# Altium schematic symbol library Capacitor Schematics.SchLib: 30 symbols
Pins are listed as number, name and electrical type; pins without a type are passive.

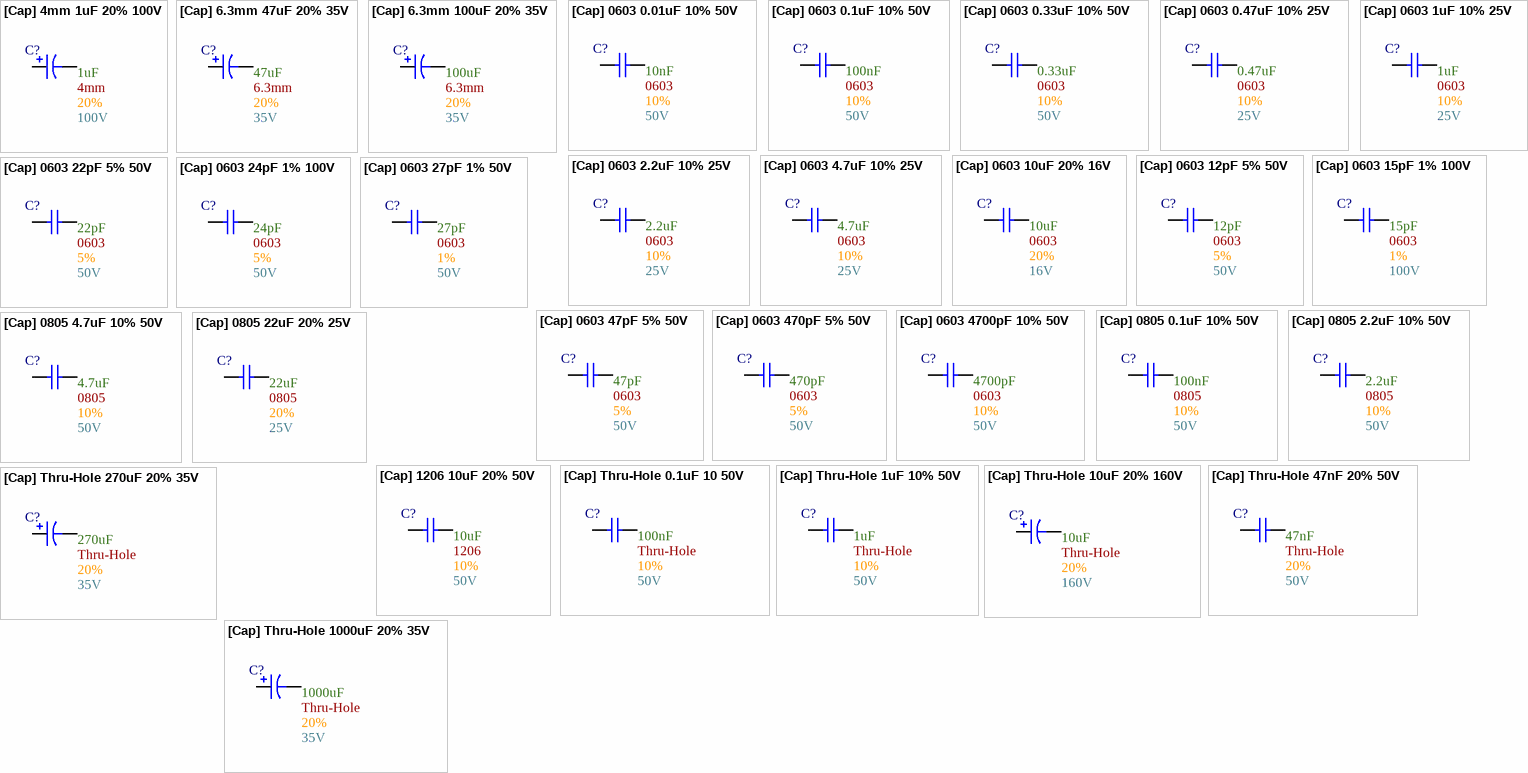
[diagram p0: symbols [Cap] 4mm 1uF 20% 100V to [Cap] Thru-Hole 1000uF 20% 35V]

## [Cap] 4mm 1uF 20% 100V
designator C?  Max Voltage: 100V  Size Package: 4mm  Tolerance: 20%  Capacitance: 1uF  (hidden comment: *)
865080840001; Supplier 1: DigiKey; Supplier Part Number 1: 732-865080840001CT-ND
footprint [Cap] SMD Polarized, 4mm
pins: 1, 2

## [Cap] 6.3mm 47uF 20% 35V
designator C?  Max Voltage: 35V  Size Package: 6.3mm  Tolerance: 20%  Capacitance: 47uF  (hidden comment: *)
UWT1V470MCL1GS; Supplier 1: DigiKey; Supplier Part Number 1: 493-2202-1-ND
footprint [Cap] SMD Polarized, 6.3mm
pins: 1, 2

## [Cap] 6.3mm 100uF 20% 35V
designator C?  Max Voltage: 35V  Size Package: 6.3mm  Tolerance: 20%  Capacitance: 100uF  (hidden comment: *)
EEE-FT1V101AP; Supplier 1: DigiKey; Supplier Part Number 1: PCE5016DKR-ND
footprint [Cap] SMD Polarized, 6.3mm
pins: 1, 2

## [Cap] 0603 0.01uF 10% 50V
designator C?  Max Voltage: 50V  Size Package: 0603  Tolerance: 10%  Capacitance: 10nF  (hidden comment: *)
C0603C103K5RACTU; Supplier 1: DigiKey; Supplier Part Number 1: 399-C0603C103K5RACTUDKR-ND
footprint [Cap] SMD 0603
pins: 1, 2

## [Cap] 0603 0.1uF 10% 50V
designator C?  Max Voltage: 50V  Size Package: 0603  Tolerance: 10%  Capacitance: 100nF  (hidden comment: *)
CL10B104KB8NNNC; Supplier 1: DigiKey; Supplier Part Number 1: 1276-1000-6-ND
footprint [Cap] SMD 0603
pins: 1, 2

## [Cap] 0603 0.33uF 10% 50V
designator C?  Max Voltage: 50V  Size Package: 0603  Tolerance: 10%  Capacitance: 0.33uF  (hidden comment: *)
CGA3E3X7R1H334K080AB; Supplier 1: DigiKey; Supplier Part Number 1: 445-174426-1-ND
footprint [Cap] SMD 0603
pins: 1, 2

## [Cap] 0603 0.47uF 10% 25V
designator C?  Max Voltage: 25V  Size Package: 0603  Tolerance: 10%  Capacitance: 0.47uF  (hidden comment: *)
TMK107B7474KA-TR; Supplier 1: DigiKey; Supplier Part Number 1: 587-2670-1-ND
footprint [Cap] SMD 0603
pins: 1, 2

## [Cap] 0603 1uF 10% 25V
designator C?  Max Voltage: 25V  Size Package: 0603  Tolerance: 10%  Capacitance: 1uF  (hidden comment: *)
CL10B105KA8NNNC; Supplier 1: DigiKey; Supplier Part Number 1: 1276-1184-1-ND
footprint [Cap] SMD 0603
pins: 1, 2

## [Cap] 0603 2.2uF 10% 25V
designator C?  Max Voltage: 25V  Size Package: 0603  Tolerance: 10%  Capacitance: 2.2uF  (hidden comment: *)
GRM188R61E225KA12D; Supplier 1: DigiKey; Supplier Part Number 1: 490-10731-1-ND
footprint [Cap] SMD 0603
pins: 1, 2

## [Cap] 0603 4.7uF 10% 25V
designator C?  Max Voltage: 25V  Size Package: 0603  Tolerance: 10%  Capacitance: 4.7uF  (hidden comment: *)
GRM188R61E475KE11D; Supplier 1: DigiKey; Supplier Part Number 1: 490-7203-6-ND
footprint [Cap] SMD 0603
pins: 1, 2

## [Cap] 0603 10uF 20% 16V
designator C?  Max Voltage: 16V  Size Package: 0603  Tolerance: 20%  Capacitance: 10uF  (hidden comment: *)
GRM188C81C106MA73D; Supplier 1: DigiKey; Supplier Part Number 1: 490-7198-1-ND
footprint [Cap] SMD 0603
pins: 1, 2

## [Cap] 0603 12pF 5% 50V
designator C?  Max Voltage: 50V  Size Package: 0603  Tolerance: 5%  Capacitance: 12pF  (hidden comment: *)
C0603C120J5GACTU; Supplier 1: DigiKey; Supplier Part Number 1: 399-C0603C120J5GACTUCT-ND
footprint [Cap] SMD 0603
pins: 1, 2

## [Cap] 0603 15pF 1% 100V
designator C?  Max Voltage: 100V  Size Package: 0603  Tolerance: 1%  Capacitance: 15pF  (hidden comment: *)
GCM1885C2A150FA16D; Supplier 1: DigiKey; Supplier Part Number 1: 490-16416-1-ND
footprint [Cap] SMD 0603
pins: 1, 2

## [Cap] 0603 22pF 5% 50V
designator C?  Max Voltage: 50V  Size Package: 0603  Tolerance: 5%  Capacitance: 22pF  (hidden comment: *)
CC0603JRNPO9BN240; Supplier 1: DigiKey; Supplier Part Number 1: 311-1062-1-ND
footprint [Cap] SMD 0603
pins: 1, 2

## [Cap] 0603 24pF 1% 100V
designator C?  Max Voltage: 50V  Size Package: 0603  Tolerance: 5%  Capacitance: 24pF  (hidden comment: *)
CC0603JRNPO9BN240; Supplier 1: DigiKey; Supplier Part Number 1: 311-1772-1-ND
footprint [Cap] SMD 0603
pins: 1, 2

## [Cap] 0603 27pF 1% 50V
designator C?  Max Voltage: 50V  Size Package: 0603  Tolerance: 1%  Capacitance: 27pF  (hidden comment: *)
0603N270F500CT; Supplier 1: DigiKey; Supplier Part Number 1: 1292-1510-1-ND
footprint [Cap] SMD 0603
pins: 1, 2

## [Cap] 0603 47pF 5% 50V
designator C?  Max Voltage: 50V  Size Package: 0603  Tolerance: 5%  Capacitance: 47pF  (hidden comment: *)
CL10C470JB8NNNC; Supplier 1: DigiKey; Supplier Part Number 1: 1276-1037-6-ND
footprint [Cap] SMD 0603
pins: 1, 2

## [Cap] 0603 470pF 5% 50V
designator C?  Max Voltage: 50V  Size Package: 0603  Tolerance: 5%  Capacitance: 470pF  (hidden comment: *)
CL10C471JB8NNNC; Supplier 1: DigiKey; Supplier Part Number 1: 1276-1168-1-ND
footprint [Cap] SMD 0603
pins: 1, 2

## [Cap] 0603 4700pF 10% 50V
designator C?  Max Voltage: 50V  Size Package: 0603  Tolerance: 10%  Capacitance: 4700pF  (hidden comment: *)
CL10B472KB8WPNC; Supplier 1: DigiKey; Supplier Part Number 1: 1276-6532-1-ND
footprint [Cap] SMD 0603
pins: 1, 2

## [Cap] 0805 0.1uF 10% 50V
designator C?  Max Voltage: 50V  Size Package: 0805  Tolerance: 10%  Capacitance: 100nF  (hidden comment: *)
CL21B104KBCNNNC; Supplier 1: DigiKey; Supplier Part Number 1: 1276-1003-6-ND
footprint [Cap] SMD 0805
pins: 1, 2

## [Cap] 0805 2.2uF 10% 50V
designator C?  Max Voltage: 50V  Size Package: 0805  Tolerance: 10%  Capacitance: 2.2uF  (hidden comment: *)
UMK212BB7225KG-T; Supplier 1: DigiKey; Supplier Part Number 1: 587-3169-1-ND
footprint [Cap] SMD 0805
pins: 1, 2

## [Cap] 0805 4.7uF 10% 50V
designator C?  Max Voltage: 50V  Size Package: 0805  Tolerance: 10%  Capacitance: 4.7uF  (hidden comment: *)
GRT21BR61H475KE13L; Supplier 1: DigiKey; Supplier Part Number 1: 490-12394-1-ND
footprint [Cap] SMD 0805
pins: 1, 2

## [Cap] 0805 22uF 20% 25V
designator C?  Max Voltage: 25V  Size Package: 0805  Tolerance: 20%  Capacitance: 22uF  (hidden comment: *)
CL21A226MAYNNWE; Supplier 1: DigiKey; Supplier Part Number 1: 1276-CL21A226MAYNNWECT-ND
footprint [Cap] SMD 0805
pins: 1, 2

## [Cap] 1206 10uF 20% 50V
designator C?  Max Voltage: 50V  Size Package: 1206  Tolerance: 10%  Capacitance: 10uF  (hidden comment: *)
CGA5L3X5R1H106M160AB; Supplier 1: DigiKey; Supplier Part Number 1: 445-12883-6-ND
footprint [Cap] SMD 1206
pins: 1, 2

## [Cap] Thru-Hole 0.1uF 10 50V
designator C?  Max Voltage: 50V  Size Package: Thru-Hole  Tolerance: 10%  Capacitance: 100nF  (hidden comment: *)
C320C104K5R5TA; Supplier 1: DigiKey; Supplier Part Number 1: 399-4264-ND
footprint [Cap] Thru-Hole Nonpolarized Ceramic
pins: 1, 2

## [Cap] Thru-Hole 1uF 10% 50V
designator C?  Max Voltage: 50V  Size Package: Thru-Hole  Tolerance: 10%  Capacitance: 1uF  (hidden comment: *)
C330C105K5R5TA7301; Supplier 1: DigiKey; Supplier Part Number 1: 399-9886-1-ND
footprint [Cap] Thru-Hole Nonpolarized Ceramic
pins: 1, 2

## [Cap] Thru-Hole 10uF 20% 160V
designator C?  Max Voltage: 160V  Size Package: Thru-Hole  Tolerance: 20%  Capacitance: 10uF  (hidden comment: *)
UVR2C100MPD; Supplier 1: DigiKey; Supplier Part Number 1: 493-1161-ND
footprint [Cap] Thru-Hole Polarized 8mm
pins: 1, 2

## [Cap] Thru-Hole 47nF 20% 50V
designator C?  Max Voltage: 50V  Size Package: Thru-Hole  Tolerance: 20%  Capacitance: 47nF  (hidden comment: *)
C317C473M5U5TA; Supplier 1: DigiKey; Supplier Part Number 1: 399-4246-ND
footprint [Cap] Thru-Hole Nonpolarized Ceramic
pins: 1, 2

## [Cap] Thru-Hole 270uF 20% 35V
designator C?  Max Voltage: 35V  Size Package: Thru-Hole  Tolerance: 20%  Capacitance: 270uF  (hidden comment: *)
35ZLH270MEFC8X16; Supplier 1: DigiKey; Supplier Part Number 1: 1189-1748-ND
footprint [Cap] Thru-Hole Polarized 8mm
pins: 1, 2

## [Cap] Thru-Hole 1000uF 20% 35V
designator C?  Max Voltage: 35V  Size Package: Thru-Hole  Tolerance: 20%  Capacitance: 1000uF  (hidden comment: *)
35PK1000MEFC10X20; Supplier 1: DigiKey; Supplier Part Number 1: 1189-1742-ND
footprint [Cap] Thru-Hole Polarized 10mm
footprint [Cap] Thru-Hole Right-Angle Polarized 10mm
pins: 1, 2